# Altium schematic symbol library BGA524N6E6327XTSA1.Schlib: 1 symbol
Pins are listed as number, name and electrical type; pins without a type are passive.

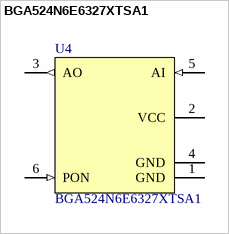
[diagram p0: symbol BGA524N6E6327XTSA1]

## BGA524N6E6327XTSA1
designator U4
RF Amplifier IC GPS/GNSS 1.55GHz ~ 1.615GHz TSNP-6-2
pins: 1 GND (power), 2 VCC (power), 3 AO (out), 4 GND (power), 5 AI (in), 6 PON (in)